# Altium schematic symbol library JLC_25.SchLib: 124 symbols
Pins are listed as number, name and electrical type; pins without a type are passive.

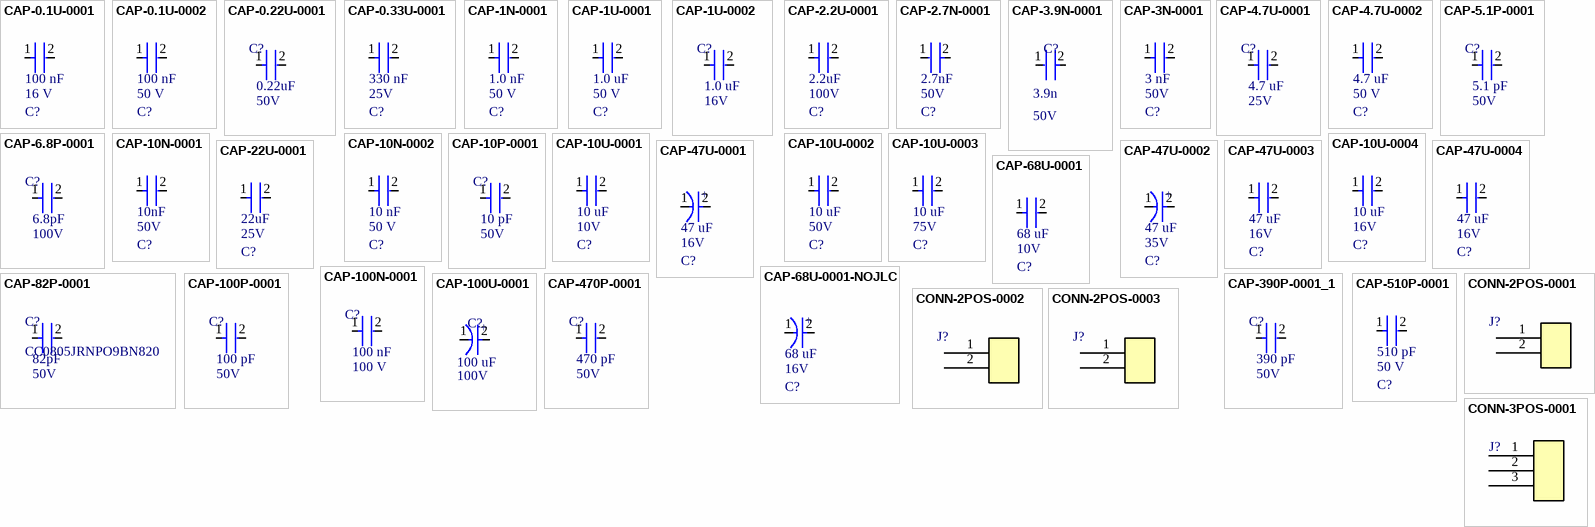
[diagram p0: symbols CAP-0.1U-0001 to CONN-3POS-0001]

## CAP-0.1U-0001
designator C?, comment Voltage Rating: 16 V  Capacitance: 100 nF  (hidden comment: CC0402KRX7R7BB104)
CAP CER 0.1UF 16V X7R 0402; ComponentLink2Description: Datasheet; ComponentLink2URL: https://www.yageo.com/upload/media/product/productsearch/datasheet/mlcc/UPY-GPHC_X7R_6.3V-to-250V_24.pdf; Device Class: Ceramic; Size: 0402
footprint CAP-0402
pins: 1, 2

## CAP-0.1U-0002
designator C?, comment Voltage Rating: 50 V  Capacitance: 100 nF  (hidden comment: CC0805KRX7R9BB104)
CAP CER 0.1UF 50V X7R 0805; ComponentLink2Description: Datasheet; ComponentLink2URL: https://www.yageo.com/upload/media/product/productsearch/datasheet/mlcc/UPY-GPHC_X7R_6.3V-to-250V_24.pdf; Device Class: Ceramic; Size: 0805
footprint CAP-0805
pins: 1, 2

## CAP-0.22U-0001
designator C?, comment Capacitance: 0.22uF  Voltage: 50V  (hidden comment: CC0603JRX7R9BB224)
CAP CER 0.22UF 50V X7R 0603; Device Class: Ceramic; Size: 0603; ComponentLink1Description: Datasheet; ComponentLink1URL: https://www.yageo.com/upload/media/product/productsearch/datasheet/mlcc/UPY-GPHC_X7R_6.3V-to-250V_24.pdf
footprint CAP-0603
pins: 1, 2

## CAP-0.33U-0001
designator C?, comment Voltage: 25V  Capacitance: 330 nF  (hidden comment: CC0603KRX7R8BB334)
CAP CER 0.33UF 25V X7R 0603; ComponentLink2Description: Datasheet; ComponentLink2URL: https://www.yageo.com/upload/media/product/productsearch/datasheet/mlcc/UPY-GPHC_X7R_6.3V-to-250V_24.pdf; Device Class: Ceramic; Size: 0603
footprint CAP-0603
pins: 1, 2

## CAP-1N-0001
designator C?, comment Voltage: 50 V  Capacitance: 1.0 nF  (hidden comment: CC0402KRX7R9BB102)
CAP CER 1000PF 50V X7R 0402; ComponentLink2Description: Datasheet; ComponentLink2URL: http://www.yageo.com/documents/recent/UPY-GP_NP0_16V-to-50V_16.pdf; Device Class: Ceramic; Size: 0402
footprint CAP-0402
pins: 1, 2

## CAP-1U-0001
designator C?, comment Voltage: 50 V  Capacitance: 1.0 uF  (hidden comment: CC0805KKX7R9BB105)
CAP CER 1UF 50V X7R 0805; ComponentLink2URL: https://www.yageo.com/upload/media/product/productsearch/datasheet/mlcc/UPY-GPHC_X7R_6.3V-to-250V_24.pdf; ComponentLink2Description: Datasheet; Device Class: Ceramic; Size: 0805
footprint CAP-0805
pins: 1, 2

## CAP-1U-0002
designator C?, comment Capacitance: 1.0 uF  Voltage: 16V  (hidden comment: CC0603KRX7R7BB105)
CAP CER 1UF 16V X7R 0603; Device Class: Ceramic; Size: 0603
footprint CAP-0603
pins: 1, 2

## CAP-2.2U-0001
designator C?, comment Capacitance: 2.2uF  Voltage: 100V  (hidden comment: CC1206KKX7R0BB225)
CAP CER 2.2UF 100V X7R 1206; Device Class: Ceramic; Size: 1206; ComponentLink1Description: Datasheet; ComponentLink1URL: https://www.yageo.com/upload/media/product/productsearch/datasheet/mlcc/UPY-GPHC_X7R_6.3V-to-250V_24.pdf
footprint CAP-1206
pins: 1, 2

## CAP-2.7N-0001
designator C?, comment Voltage: 50V  Capacitance: 2.7nF  (hidden comment: GRM2165C1H272JA01D)
CAP CER 2700PF 50V C0G/NP0 0805; ComponentLink1Description: Datasheet; ComponentLink1URL: https://search.murata.co.jp/Ceramy/image/img/A01X/G101/ENG/GRM2165C1H272JA01-01.pdf; Device Class: Ceramic; Size: 0805
footprint CAP-0805
pins: 1, 2

## CAP-3.9N-0001
designator C?, comment Voltage: 50V  Capacitance: 3.9n  (hidden comment: CC0402JRX7R9BB392)
3900 pF ±5% 50V Ceramic Capacitor X7R 0402 (1005 Metric)
footprint CAP-0402
pins: 1, 2

## CAP-3N-0001
designator C?, comment Voltage: 50V  Capacitance: 3 nF  (hidden comment: GRM1885C1H302JA01D)
3000 pF ±5% 50V Ceramic Capacitor C0G, NP0 0603 (1608 Metric); Device Class: Ceramic; Size: 1210; ComponentLink1Description: Datasheet; ComponentLink1URL: https://mm.digikey.com/Volume0/opasdata/d220001/medias/docus/41/CL32B106KBJNNNE_Spec.pdf
footprint CAP-0603
pins: 1, 2

## CAP-4.7U-0001
designator C?, comment Capacitance: 4.7 uF  Voltage: 25V  (hidden comment: CC0603KRX5R8BB475)
CAP CER 4.7UF 25V X5R 0603; Device Class: Ceramic; Size: 0603
footprint CAP-0603
pins: 1, 2

## CAP-4.7U-0002
designator C?, comment Voltage: 50 V  Capacitance: 4.7 uF  (hidden comment: CC0805KKX5R9BB475)
CAP CER 4.7UF 50V X5R 0805; ComponentLink2Description: Datasheet; ComponentLink2URL: http://www.yageo.com/documents/recent/UPY-GPHC_Y5V_6.3V-to-50V_8.pdf; Device Class: Ceramic; Size: 0805
footprint CAP-0805
pins: 1, 2

## CAP-5.1P-0001
designator C?, comment Voltage: 50V  Capacitance: 5.1 pF  (hidden comment: CC0402CRNPO9BN5R1)
CAP CER 5.1PF 50V C0G/NPO 0402; Device Class: Ceramic; Size: 0402; ComponentLink1Description: Datasheet; ComponentLink1URL: https://www.yageo.com/upload/media/product/productsearch/datasheet/mlcc/UPY-GPHC_X7R_6.3V-to-250V_24.pdf
footprint CAP-0402
pins: 1, 2

## CAP-6.8P-0001
designator C?, comment Voltage: 100V  Capacitance: 6.8pF  (hidden comment: CC0603CRNPO0BN6R8)
CAP CER 6.8PF 100V C0G/NPO 0603; Device Class: Ceramic; ComponentLink1Description: Datasheet; ComponentLink1URL: https://www.yageo.com/upload/media/product/productsearch/datasheet/mlcc/UPY-GPHC_X7R_6.3V-to-250V_24.pdf; Size: 0603
footprint CAP-0603
pins: 1, 2

## CAP-10N-0001
designator C?, comment Voltage: 50V  Capacitance: 10nF  (hidden comment: GRM2195C1H103JA01D)
CAP CER 10000PF 50V C0G/NP0 0805; Device Class: Ceramic; Size: 0805; ComponentLink1Description: Datasheet; ComponentLink1URL: https://search.murata.co.jp/Ceramy/image/img/A01X/G101/ENG/GRM2195C1H103JA01-01.pdf
footprint CAP-0805
pins: 1, 2

## CAP-10N-0002
designator C?, comment Voltage: 50 V  Capacitance: 10 nF  (hidden comment: CC0603KPX7R9BB103)
CAP CER 10000PF 50V X7R 0603; ComponentLink2Description: Datasheet; ComponentLink2URL: http://www.yageo.com/documents/recent/UPY-GPHC_X7R_6.3V-to-50V_18.pdf; Device Class: Ceramic; Size: 0603
footprint CAP-0603
pins: 1, 2

## CAP-10P-0001
designator C?, comment Capacitance: 10 pF  Voltage: 50V  (hidden comment: CC0402JRNPO9BN100)
CAP CER 10PF 50V C0G/NPO 0402; Device Class: Ceramic; Size: 0402; ComponentLink1Description: Datasheet; ComponentLink1URL: https://www.yageo.com/upload/media/product/productsearch/datasheet/mlcc/UPY-GP_NP0_16V-to-50V_18.pdf
footprint CAP-0402
pins: 1, 2

## CAP-10U-0001
designator C?, comment Voltage: 10V  Capacitance: 10 uF  (hidden comment: CC0603KRX5R6BB106)
CAP CER 10UF 10V X5R 0603; ComponentLink1Description: Datasheet; ComponentLink1URL: https://www.yageo.com/upload/media/product/app/datasheet/mlcc/upy-gphc_x5r_4v-to-50v.pdf; Device Class: Ceramic; Size: 0603
footprint CAP-0603
pins: 1, 2

## CAP-10U-0002
designator C?, comment Voltage: 50V  Capacitance: 10 uF  (hidden comment: CL32B106KBJNNNE)
CAP CER 10UF 50V X7R 1210; Device Class: Ceramic; Size: 1210; ComponentLink1Description: Datasheet; ComponentLink1URL: https://mm.digikey.com/Volume0/opasdata/d220001/medias/docus/41/CL32B106KBJNNNE_Spec.pdf
footprint CAP-1210
pins: 1, 2

## CAP-10U-0003
designator C?, comment Voltage: 75V  Capacitance: 10 uF  (hidden comment: C3225X7R1N106K250AC)
CAP CER 10UF 75V X7R 1210; Device Class: Ceramic; Size: 1210; ComponentLink1Description: Datasheet; ComponentLink1URL: https://mm.digikey.com/Volume0/opasdata/d220001/medias/docus/41/CL32B106KBJNNNE_Spec.pdf
footprint CAP-1210-0001
pins: 1, 2

## CAP-10U-0004
designator C?, comment Voltage: 16V  Capacitance: 10 uF  (hidden comment: 293D106X9016A2TE3)
CAP TANT 10UF 10% 16V 1206; Device Class: Tantalum; Size: 1206; ComponentLink1Description: Datasheet; ComponentLink1URL: https://www.lcsc.com/datasheet/lcsc_datasheet_2304140030_Vishay-Intertech-293D106X9016A2TE3_C110038.pdf
footprint CAP-1206
pins: 1, 2

## CAP-22U-0001
designator C?, comment Voltage: 25V  Capacitance: 22uF  (hidden comment: GRM32ER61E226KE15L)
CAP CER 22UF 25V X5R 1210; ComponentLink2Description: Datasheet; ComponentLink2URL: https://search.murata.co.jp/Ceramy/image/img/A01X/G101/ENG/GRM32ER61E226KE15-01A.pdf; Device Class: Ceramic; Size: 1210
footprint CAP-1210
pins: 1, 2

## CAP-47U-0001
designator C?, comment Voltage: 16V  Capacitance: 47 uF  (hidden comment: 16SVPG47M)
CAP ALUM POLY 47UF 20% 16V SMD; Device Class: Electrolytic; ComponentLink1Description: Datasheet; ComponentLink1URL: https://industrial.panasonic.com/cdbs/www-data/pdf/AAB8000/AAB8000C175.pdf
footprint CAP-47U-0001
pins: 1 C, 2 A
text: +

## CAP-47U-0002
designator C?, comment Voltage: 35V  Capacitance: 47 uF  (hidden comment: EEH-ZC1V470P)
CAP ALUM HYBRID 47UF 20% 35V SMD; Device Class: Electrolytic; ComponentLink1Description: Datasheet; ComponentLink1URL: https://industrial.panasonic.com/cdbs/www-data/pdf/RDD0000/ABA0000C1234.pdf
footprint CAP-Radial-SMD
pins: 1 C, 2 A
text: +

## CAP-47U-0003
designator C?, comment Capacitance: 47 uF  Voltage: 16V  (hidden comment: C3225X7R1N106K250AC)
CAP CER 47UF 16V X5R 1210; Device Class: Ceramic; Size: 1210; ComponentLink1Description: Datasheet; ComponentLink1URL: https://search.murata.co.jp/Ceramy/image/img/A01X/G101/ENG/GRM32ER61C476KE15-01.pdf
footprint CAP-1210
pins: 1, 2

## CAP-47U-0004
designator C?, comment Capacitance: 47 uF  Voltage: 16V  (hidden comment: GRM32ER61C476KE15L)
CAP CER 47UF 16V X5R 1210; Device Class: Ceramic; Size: 1210; ComponentLink1Description: Datasheet; ComponentLink1URL: https://search.murata.co.jp/Ceramy/image/img/A01X/G101/ENG/GRM32ER61C476KE15-01.pdf
footprint CAP-1210
pins: 1, 2

## CAP-68U-0001
designator C?, comment Capacitance: 68 uF  Voltage: 10V  (hidden comment: C5750X5R1A686MT000N)
CAP CER 68UF 10V X5R 2220; Device Class: Ceramic; Size: 2220; ComponentLink1Description: Datasheet; ComponentLink1URL: https://www.lcsc.com/datasheet/lcsc_datasheet_2304140030_TDK-C5750X5R1A686MT000N_C342299.pdf
footprint CAP-1210
pins: 1, 2

## CAP-68U-0001-NOJLC
designator C?, comment Voltage: 16V  Capacitance: 68 uF  (hidden comment: T495C686M016ATE250)
CAP TANT 68UF 20% 16V 2312; Device Class: Electrolytic; ComponentLink1Description: Datasheet; ComponentLink1URL: https://industrial.panasonic.com/cdbs/www-data/pdf/AAB8000/AAB8000C175.pdf
footprint CAP-2312
pins: 1 C, 2 A
text: +

## CAP-82P-0001
designator C?, comment CC0805JRNPO9BN820  Voltage: 50V  Capacitance: 82pF
82 pF ±5% 50V Ceramic Capacitor C0G, NP0 0805 (2012 Metric)
footprint CAP-0805
pins: 1, 2

## CAP-100N-0001
designator C?, comment Capacitance: 100 nF  Voltage: 100 V  (hidden comment: CC0603KRX7R0BB104)
CAP CER 0.1UF 100V X7R 0603; Device Class: Ceramic; Size: 0603; ComponentLink1Description: Datasheet; ComponentLink1URL: https://www.yageo.com/upload/media/product/app/datasheet/mlcc/upy-np0x7r_mv_100-to-630v.pdf
footprint CAP-0603
pins: 1, 2

## CAP-100P-0001
designator C?, comment Capacitance: 100 pF  Voltage: 50V  (hidden comment: CC0402JRNPO9BN101)
CAP CER 100PF 50V C0G/NPO 0402; Device Class: Ceramic; Size: 0402; ComponentLink1Description: Datasheet; ComponentLink1URL: https://www.yageo.com/upload/media/product/productsearch/datasheet/mlcc/UPY-GP_NP0_16V-to-50V_18.pdf
footprint CAP-0402
pins: 1, 2

## CAP-100U-0001
designator C?, comment Voltage: 100V  Capacitance: 100 uF  (hidden comment: EEETK2A101AM)
CAP ALUM 100UF 20% 100V SMD; Device Class: Electrolytic; ComponentLink1Description: Datasheet; ComponentLink1URL: https://industrial.panasonic.com/cdbs/www-data/pdf/RDE0000/ABA0000C1190.pdf
footprint CAP-100U-0001
pins: 1 2, 2 1
text: +

## CAP-390P-0001_1
designator C?, comment Capacitance: 390 pF  Voltage: 50V  (hidden comment: GRM155R71H391KA01D)
CAP CER 390PF 50V X7R 0402; Device Class: Ceramic; Size: 0402; ComponentLink1Description: Datasheet; ComponentLink1URL: https://www.lcsc.com/datasheet/lcsc_datasheet_1912111437_Murata-Electronics-GRM155R71H391KA01D_C185563.pdf
footprint CAP-0402
pins: 1, 2

## CAP-470P-0001
designator C?, comment Voltage: 50V  Capacitance: 470 pF  (hidden comment: CC0805JRNPO9BN471)
CAP CER 470PF 50V C0G/NPO 0805; Device Class: Ceramic; Size: 0805; ComponentLink1Description: Datasheet; ComponentLink1URL: https://www.yageo.com/upload/media/product/productsearch/datasheet/mlcc/UPY-GP_NP0_16V-to-50V_18.pdf
footprint CAP-0805
pins: 1, 2

## CAP-510P-0001
designator C?, comment Voltage: 50 V  Capacitance: 510 pF  (hidden comment: 0402N511J500CT)
CAP CER 510PF 50V C0G/NP0 0402; ComponentLink2Description: Datasheet; ComponentLink2URL: https://www.mouser.com/ProductDetail/Walsin/0402N511J500CT?qs=u16ybLDytRbq33ukPPRl4A%3D%3D&srsltid=AfmBOoq1-HCbTRqPV3GtwyI6lHLBf095DSA3Qg1Qkiix4a-obr82TmJ6; Device Class: Ceramic; Size: 0402
footprint CAP-0402
pins: 1, 2

## CONN-2POS-0001
designator J?, comment 0430450212  (value not drawn)
CONN HEADER VERT 2POS; ComponentLink1Description: Datasheet; ComponentLink1URL: https://tools.molex.com/pdm_docs/ps/PS-43045.pdf
footprint CONN-2POS-0001
pins: 1 7, 2 8

## CONN-2POS-0002
designator J?, comment 0436500215  (value not drawn)
CONN HEADER VERT 2POS 3MM; ComponentLink1Description: Datasheet; ComponentLink1URL: https://www.molex.com/content/dam/molex/molex-dot-com/products/automated/en-us/salesdrawingpdf/436/43650/436500215_sd.pdf?inline
footprint CONN-2POS-0002
pins: 1 7, 2 8

## CONN-2POS-0003
designator J?, comment 1546927-2  (value not drawn)
footprint CONN-1546927-2
pins: 1 7, 2 8

## CONN-3POS-0001
designator J?, comment 61300311121  (value not drawn)
CONN HEADER VERT 3POS 2.54MM; Current Rating: 3A; Voltage Rating: 250V; ComponentLink1Description: Datasheet; ComponentLink1URL: https://www.we-online.com/components/products/datasheet/61300311121.pdf
footprint CONN-3POS-0001 (Pin Header, pitch 2.54 mm, THT, Vertical, single row, 3p)
pins: 1 7, 2 8, 3 9

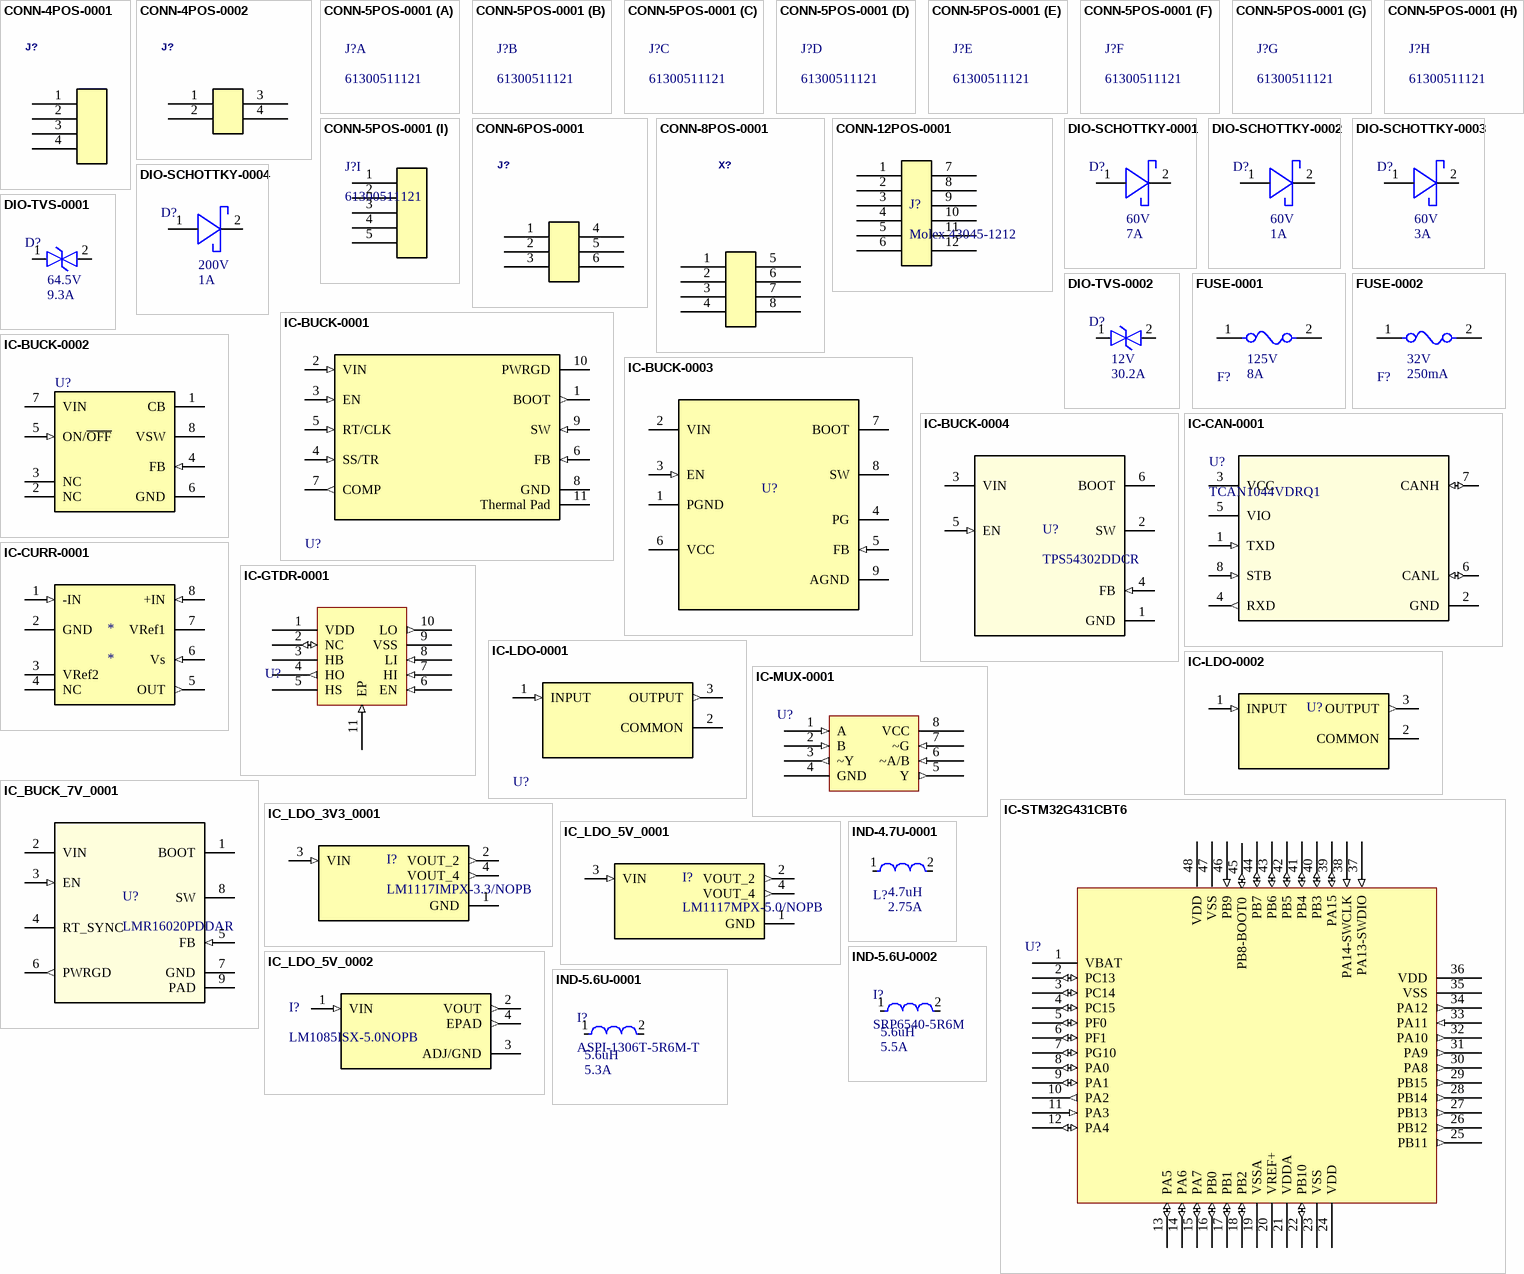
[diagram p1: symbols CONN-4POS-0001 to IND-5.6U-0002]

## CONN-4POS-0001
designator J?, comment Molex 43650-0415  (value not drawn)
CONN HEADER VERT 4POS 3MM; ComponentLink1Description: Datasheet; ComponentLink1URL: https://www.molex.com/content/dam/molex/molex-dot-com/products/automated/en-us/salesdrawingpdf/436/43650/436500415_sd.pdf?inline
footprint CONN-4POS-0001
pins: 1, 2, 3, 4

## CONN-4POS-0002
designator J?, comment Molex 43045-0412  (value not drawn)
CONN HEADER VERT 4POS 3MM; ComponentLink1Description: Datasheet; ComponentLink1URL: https://www.molex.com/content/dam/molex/molex-dot-com/products/automated/en-us/salesdrawingpdf/430/43045/430450412_sd.pdf?inline
footprint CONN-4POS-0002
pins: 1, 2, 3, 4

## CONN-5POS-0001
designator J?, comment 61300511121
CONN HEADER VERT 5POS 2.54MM; ComponentLink1Description: Datasheet; ComponentLink1URL: https://www.we-online.com/components/products/datasheet/61300511121.pdf
footprint CONN-5POS-0001 (Pin Header, pitch 2.54 mm, THT, Vertical, single row, 5p)
part I pins: 1, 2, 3, 4, 5

## CONN-6POS-0001
designator J?, comment Molex 43045-0612  (value not drawn)
CONN HEADER VERT 6POS 3MM; ComponentLink1Description: Datasheet; ComponentLink1URL: https://tools.molex.com/pdm_docs/ps/PS-43045.pdf
footprint CONN-6POS-0001
pins: 1 7, 2, 3, 4, 5, 6

## CONN-8POS-0001
designator X?, comment Molex 43045-0812  (value not drawn)
GateName_1: G$1; SymbolName_1: HEADER_POS8; DeviceSetName: HEADER_POS8_?; DeviceName: 43045-0812; LibraryName: con-molex-micro-fit-3_0_2; Package: 43045-0812
footprint CONN-8POS-0001
pins: 1 7, 2, 3, 4, 5, 6, 7, 8

## CONN-12POS-0001
designator J?, comment Molex 43045-1212
CONN HEADER VERT 12POS 3MM
footprint CONN-12POS-0001
pins: 1 7, 2, 3, 4, 5, 6 4, 7, 8, 9 10, 10, 11, 12

## DIO-SCHOTTKY-0001
designator D?, comment Forward Current: 7A  Reverse Voltage (DC): 60V  (hidden comment: PDS760-13)
DIODE SCHOTTKY 60V 7A POWERDI5; ComponentLink1Description: Datasheet; ComponentLink1URL: https://www.diodes.com/assets/Datasheets/PDS760.pdf
footprint DO-POWERDI5 (SMD, 3-Leads, Body 3.975x5.375mm, Pitch 1.84mm)
pins: 1 CATHODE, 2 ANODE

## DIO-SCHOTTKY-0002
designator D?, comment Forward Current: 1A  Reverse Voltage (DC): 60V  (hidden comment: PMEG6010CEH,115)
DIODE SCHOTTKY 60V 1A SOD123F; ComponentLink1Description: Datasheet; ComponentLink1URL: https://assets.nexperia.com/documents/data-sheet/PMEG6010CEH.pdf
footprint SOD123F
pins: 1 CATHODE, 2 ANODE

## DIO-SCHOTTKY-0003
designator D?, comment Current Rating: 3A  Reverse Voltage: 60V  (hidden comment: PMEG6030EP,115)
DIODE SCHOTTKY 60V 3A SOD128; ComponentLink1Description: Datasheet; ComponentLink1URL: https://assets.nexperia.com/documents/data-sheet/PMEG6030EP.pdf
footprint DIO-SOD128
pins: 1 CATHODE, 2 ANODE

## DIO-SCHOTTKY-0004
designator D?, comment Current Rating: 1A  Reverse Voltage: 200V  (hidden comment: SS1200)
DIODE SCHOTTKY 200V 1A SMA; ComponentLink1Description: Datasheet; ComponentLink1URL: https://www.digikey.com/en/products/detail/mdd/ss1200/15911596
footprint SMA_DIO
pins: 1 CATHODE, 2 ANODE

## DIO-TVS-0001
designator D?, comment Voltage Rating: 64.5V  Current Rating: 9.3A  (hidden comment: SMBJ40CA)
TVS DIODE 40VWM 64.5VC DO214AA; ComponentLink1Description: Datasheet; ComponentLink1URL: https://www.littelfuse.com/media?resourcetype=datasheets&itemid=09a6ae9a-73cb-4ac4-acac-e6dab92ab953&filename=littelfuse_tvs_diode_smbj_datasheet.pdf
footprint DO-214AA (SMBJ)
pins: 1, 2

## DIO-TVS-0002
designator D?, comment Standoff Voltage: 12V  Current Rating: 30.2A  (hidden comment: SMBJ12CA)
TVS DIODE 12VWM 19.9VC DO214AA; ComponentLink1Description: Datasheet; ComponentLink1URL: https://www.littelfuse.com/media?resourcetype=datasheets&itemid=09a6ae9a-73cb-4ac4-acac-e6dab92ab953&filename=littelfuse_tvs_diode_smbj_datasheet.pdf
footprint DO-214AA (SMBJ)
pins: 1, 2

## FUSE-0001
designator F?, comment Fuse Current: 8A  Voltage Rating: 125V  (hidden comment: 01550900M)
FUSE BLOK CARTRIDGE 125V 10A SMD; ComponentLink2Description: Datasheet; ComponentLink2URL: https://www.littelfuse.com/~/media/electronics/datasheets/fuses/littelfuse_fuse_154_154t_154l_154tl_datasheet.pdf.pdf
footprint FUSE-0001
pins: 1, 2

## FUSE-0002
designator F?, comment Fuse Current: 250mA  Voltage Rating: 32V  (hidden comment: 0467.250NRHF)
FUSE BRD MT 250MA 32VAC 32VDC; ComponentLink2Description: Datasheet; ComponentLink2URL: https://www.littelfuse.com/media?resourcetype=datasheets&itemid=4a59f034-1cca-460e-a5ba-e1e66247c76d&filename=littelfuse_fuse_467_datasheet.pdf
footprint RES-0603
pins: 1, 2

## IC-BUCK-0001
designator U?, comment TPS54561DPRR  (value not drawn)
IC REG BUCK ADJ 5A 10WSON; ComponentLink1Description: Datasheet; ComponentLink1URL: https://www.ti.com/general/docs/suppproductinfo.tsp?distId=10&gotoUrl=https%3A%2F%2Fwww.ti.com%2Flit%2Fgpn%2Ftps54561
footprint IC-10WSON
pins: 1 BOOT (out), 2 VIN (in), 3 EN (in), 4 SS/TR (in), 5 RT/CLK (in), 6 FB (in), 7 COMP (out), 8 GND (power), 9 SW (in), 10 PWRGD (oc), 11 Thermal Pad (power)

## IC-BUCK-0002
designator U?, comment LM2674M-ADJ/NOPB  (value not drawn)
IC REG BUCK ADJ 500MA 8SOIC; ComponentLink1Description: Datasheet; ComponentLink1URL: http://www.ti.com/general/docs/lit/getliterature.tsp?genericPartNumber=LM2674&fileType=pdf
footprint IC-8SOIC
pins: 1 CB, 2 NC, 3 NC, 4 FB (in), 5 ON/~{OFF} (in), 6 GND (power), 7 VIN (power), 8 VSW (power)

## IC-BUCK-0003
designator U?, comment LMR36510FADDAR  (value not drawn)
IC REG BUCK ADJ 1A 8SOPWR; ComponentLink1Description: Datasheet; ComponentLink1URL: https://www.ti.com/lit/ds/symlink/lmr36510.pdf?HQS=dis-dk-null-digikeymode-dsf-pf-null-wwe&ts=1728572125021&ref_url=https%253A%252F%252Fwww.ti.com%252Fgeneral%252Fdocs%252Fsuppproductinfo.tsp%253FdistId%253D10%2526gotoUrl%253Dhttps%253A%252F%252Fwww.ti.com%252Flit%252Fgpn%252Flmr36510
footprint IC-8SOPWR
pins: 1 PGND (power), 2 VIN (power), 3 EN (in), 4 PG (oc), 5 FB (in), 6 VCC (power), 7 BOOT (power), 8 SW (power), 9 AGND

## IC-BUCK-0004
designator U?, comment TPS54302DDCR
IC REG BUCK ADJ 3A SOT23
footprint IC-SOT-23-6
pins: 1 GND (power), 2 SW (power), 3 VIN (power), 4 FB (in), 5 EN (in), 6 BOOT (power)

## IC-CAN-0001
designator U?, comment TCAN1044VDRQ1
IC TRANSCEIVER 1/1 8SOIC; ComponentLink1Description: Datasheet; ComponentLink1URL: https://www.ti.com/lit/ds/symlink/tcan1044-q1.pdf?HQS=dis-dk-null-digikeymode-dsf-pf-null-wwe&ts=1728758303289&ref_url=https%253A%252F%252Fwww.ti.com%252Fgeneral%252Fdocs%252Fsuppproductinfo.tsp%253FdistId%253D10%2526gotoUrl%253Dhttps%253A%252F%252Fwww.ti.com%252Flit%252Fgpn%252Ftcan1044-q1
footprint IC-8SOIC
pins: 1 TXD (in), 2 GND (power), 3 VCC (power), 4 RXD (out), 5 VIO (power), 6 CANL (io), 7 CANH (io), 8 STB (in)

## IC-CURR-0001
designator *
Current Sense Amplifier 1 Circuit 8-MSOP
footprint IC-CURR
pins: 1 -IN (in), 2 GND (power), 3 VRef2, 4 NC, 5 OUT (out), 6 Vs (in), 7 VRef1 (power), 8 +IN (in)

## IC-GTDR-0001
designator U?, comment UCC27282DRCR  (value not drawn)
IC GATE DRVR HALF-BRIDGE 10VSON; VCC Max: 16; Package: 10-VSON; ComponentLink1Description: Datasheet; ComponentLink1URL: https://www.ti.com/lit/ds/symlink/ucc27282.pdf?HQS=dis-dk-null-digikeymode-dsf-pf-null-wwe&ts=1728563165008&ref_url=https%253A%252F%252Fwww.ti.com
footprint IC-10VSON
pins: 1 VDD (power), 2 NC (io), 3 HB (power), 4 HO (out), 5 HS (power), 6 EN (in), 7 HI (in), 8 LI (in), 9 VSS (power), 10 LO (out), 11 EP (in)

## IC-LDO-0001
designator U?, comment UA78M05IDCYR  (value not drawn)
IC REG LINEAR 5V 500MA SOT223-4; ComponentLink2URL: http://www.ti.com/lit/ds/symlink/ua78m.pdf; ComponentLink2Description: Datasheet
footprint IC-SOT-223-4
pins: 1 INPUT (in), 2 COMMON, 3 OUTPUT (out)

## IC-LDO-0002
designator U?, comment UA78M33CDCYR  (value not drawn)
IC REG LIN 3.3V 500MA SOT223-4; ComponentLink1Description: Datasheet; ComponentLink1URL: https://www.ti.com/lit/ds/slvs059u/slvs059u.pdf?ts=1728540043529
footprint IC-SOT-223-4
pins: 1 INPUT (in), 2 COMMON (power), 3 OUTPUT (out)

## IC-MUX-0001
designator U?, comment SN74LVC2G157DCUR  (value not drawn)
Multiplexer 1 x 2:1 8-VSSOP; ComponentLink1Description: Datasheet; ComponentLink1URL: https://www.ti.com/general/docs/suppproductinfo.tsp?distId=10&gotoUrl=https%3A%2F%2Fwww.ti.com%2Flit%2Fgpn%2Fsn74lvc2g157
footprint IC-8VSSOP
pins: 1 A (in), 2 B (in), 3 ~Y (out), 4 GND (power), 5 Y (out), 6 ~A/B (in), 7 ~G (in), 8 VCC (power)

## IC-STM32G431CBT6
designator U?, comment STM32G431CBT6  (value not drawn)
IC MCU 32BIT 128KB FLASH 48LQFP; Package: 48LQFP; ComponentLink1Description: Datasheet; ComponentLink1URL: https://www.st.com/resource/en/datasheet/stm32g431cb.pdf
footprint IC-LQFP48
pins: 1 VBAT (power), 2 PC13 (io), 3 PC14 (io), 4 PC15 (io), 5 PF0 (io), 6 PF1 (io), 7 PG10 (io), 8 PA0 (io), 9 PA1 (io), 10 PA2 (out), 11 PA3 (in), 12 PA4 (io), 13 PA5 (io), 14 PA6 (io), 15 PA7 (io), 16 PB0 (io), 17 PB1 (io), 18 PB2 (io), 19 VSSA (power), 20 VREF+ (power), 21 VDDA (power), 22 PB10 (io), 23 VSS (power), 24 VDD (power), 25 PB11 (out), 26 PB12 (out), 27 PB13 (out), 28 PB14 (out), 29 PB15 (out), 30 PA8 (out), 31 PA9 (out), 32 PA10 (out), 33 PA11 (in), 34 PA12 (out), 35 VSS (power), 36 VDD (power), 37 PA13-SWDIO (in), 38 PA14-SWCLK (in), 39 PA15 (io), 40 PB3 (io), 41 PB4 (io), 42 PB5 (io), 43 PB6 (io), 44 PB7 (io), 45 PB8-BOOT0 (io), 46 PB9 (in), 47 VSS (power), 48 VDD (power)

## IC_BUCK_7V_0001
designator U?, comment LMR16020PDDAR
IC REG BUCK ADJ 2A 8SOPWR; ComponentLink1Description: Datasheet; ComponentLink1URL: https://www.ti.com/general/docs/suppproductinfo.tsp?distId=10&gotoUrl=https%3A%2F%2Fwww.ti.com%2Flit%2Fgpn%2Flmr16020
footprint IC-8SOPWR
pins: 1 BOOT, 2 VIN (power), 3 EN (in), 4 RT_SYNC, 5 FB (in), 6 PWRGD (out), 7 GND (power), 8 SW (power), 9 PAD (power)

## IC_LDO_3V3_0001
designator I?, comment LM1117IMPX-3.3/NOPB
IC REG LIN 3.3V 800MA SOT223-4; ComponentLink1Description: New link; ComponentLink1URL: https://www.ti.com/lit/ds/symlink/lm1117.pdf?HQS=dis-dk-null-digikeymode-dsf-pf-null-wwe&ts=1721700739746
footprint IC-SOT-223-4
pins: 1 GND (power), 2 VOUT_2 (out), 3 VIN (in), 4 VOUT_4 (out)

## IC_LDO_5V_0001
designator I?, comment LM1117MPX-5.0/NOPB
IC REG LINEAR 5V 800MA SOT223-4; ComponentLink1Description: Datasheet; ComponentLink1URL: https://www.ti.com/lit/ds/symlink/lm1117.pdf?HQS=dis-dk-null-digikeymode-dsf-pf-null-wwe&ts=1721700739746
footprint IC-SOT-223-4
pins: 1 GND (power), 2 VOUT_2 (out), 3 VIN (in), 4 VOUT_4 (out)

## IC_LDO_5V_0002
designator I?, comment LM1085ISX-5.0NOPB
IC REG LIN 5V 3A DDPAK/TO263-3; Mfr_Name: Texas Instruments; RefDes: RefDes; Type: Type; ComponentLink1Description: Datasheet; ComponentLink1URL: https://www.ti.com/lit/ds/symlink/lm1085.pdf?HQS=dis-dk-null-digikeymode-dsf-pf-null-wwe&ts=1729859809163&ref_url=https%253A%252F%252Fwww.ti.com%252Fgeneral%252Fdocs%252Fsuppproductinfo.tsp%253FdistId%253D10%2526gotoUrl%253Dhttps%253A%252F%252Fwww.ti.com%252Flit%252Fgpn%252Flm1085
footprint IC-TO-263-4
pins: 1 VIN (in), 2 VOUT (out), 3 ADJ/GND (power), 4 EPAD (out)

## IND-4.7U-0001
designator L?, comment Inductance: 4.7uH  Current Rating: 2.75A  (hidden comment: CDRH104NP-221MC)
FIXED IND 220UH 520MA 960MOHM SM; ComponentLink1Description: Datasheet; ComponentLink1URL: https://products.sumida.com/products/pdf/CDRH104.pdf
footprint IND-4.7UH-0001
pins: 1, 2

## IND-5.6U-0001
designator I?, comment ASPI-1306T-5R6M-T  Saturation Current: 5.3A  Inductance: 5.6uH
5.6 µH Unshielded Drum Core, Wirewound Inductor 5.3 A 20mOhm Max Nonstandard
footprint IND-5.6UH-0001
pins: 1, 2

## IND-5.6U-0002
designator I?, comment SRP6540-5R6M  Saturation Current: 5.5A  Inductance: 5.6uH
FIXED IND 5.6UH 5.5A 38 MOHM SMD
footprint IND_SRP6540-5R6M
pins: 1, 2

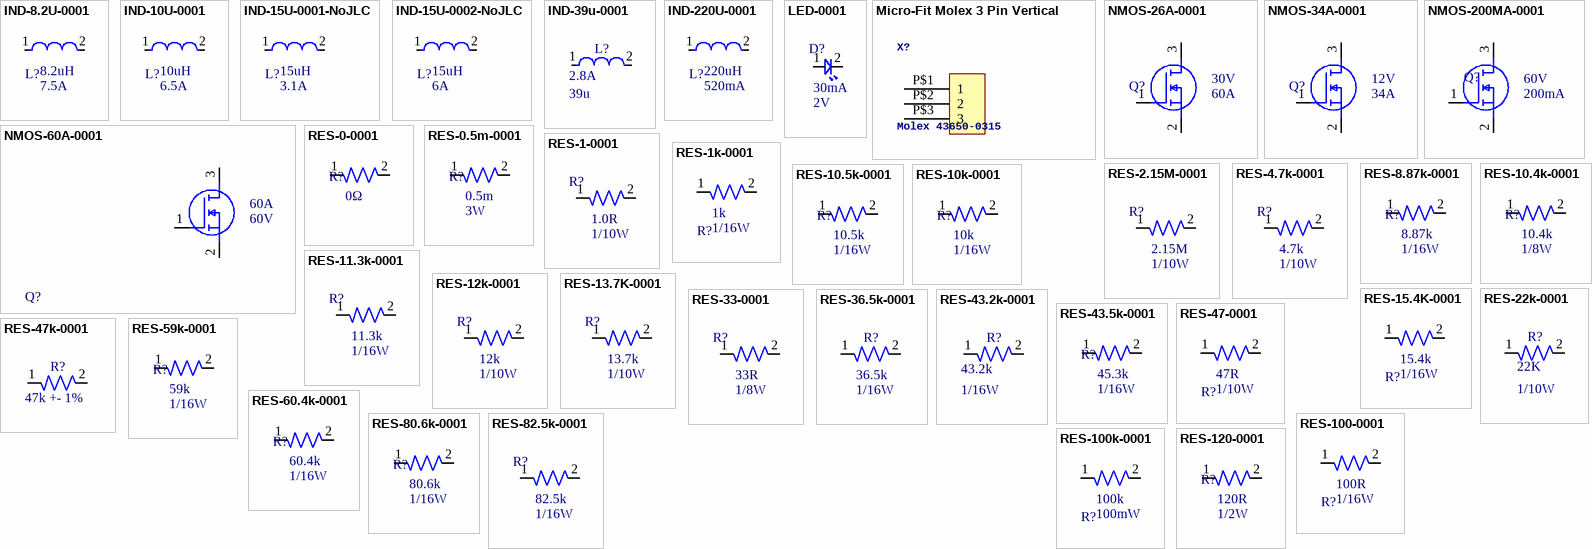
[diagram p2: symbols IND-8.2U-0001 to RES-120-0001]

## IND-8.2U-0001
designator L?, comment Inductance: 8.2uH  Current Rating: 7.5A  (hidden comment: IHLP2525CZER8R2M01)
8.2 µH Shielded Molded Inductor 4 A 68mOhm Max Nonstandard; ComponentLink1Description: Datasheet; ComponentLink1URL: https://products.sumida.com/products/pdf/CDRH104.pdf
footprint IND25X25CZ
pins: 1, 2

## IND-10U-0001
designator L?, comment Inductance: 10uH  Current Rating: 6.5A  (hidden comment: BMRF001010401R0MD1)
FIXED IND 10UH 6.5A 30 MOHM SMD; ComponentLink1Description: Datasheet; ComponentLink1URL: https://productfinder.pulseelectronics.com/api/open/part-attachments/datasheet/BMRF001010401R0MD1
footprint IND-10UH-0001
pins: 1, 2

## IND-15U-0001-NoJLC
designator L?, comment Inductance: 15uH  Current Rating: 3.1A  (hidden comment: CSAD1010-150M)
FIXED IND 15UH 3.1A 50 MOHM SMD; ComponentLink1Description: Datasheet; ComponentLink1URL: https://www.eaton.com/content/dam/eaton/products/electronic-components/resources/data-sheet/eaton-dr1040-shielded-power-inductors-data-sheet.pdf
footprint IND-15UH-0001 (7v Buck)
pins: 1, 2

## IND-15U-0002-NoJLC
designator L?, comment Inductance: 15uH  Current Rating: 6A  (hidden comment: CSAD1010-150M)
SMD MOLDING POWER CHOKE; ComponentLink1Description: Datasheet; ComponentLink1URL: https://www.digikey.com/en/products/detail/codaca/CSAD1010-150M/16633512?s=N4IgjCBcoBwAxVAYygMwIYBsDOBTANCAPZQDaIALHAExwDMEAuoQA4AuUIAymwE4CWAOwDmIAL6Ew1MAE5EIFJAw4CxMiGoy6AdmoUQhajGqa6BjTDp6zhywFY4c23UtOLFbVXPVtYK3e9dODsbdwA2OxgQZhB2Th4BEXFJTQhoBTQsPEISSHITS0do1g5Ibj4hUQkNOBhteTiygFVBfjYAeVQAWVx0bABXXlxzfs4AVoAJcwBbIU4wAMJp9AAPeYDq2hgo9MaQFrbOnr7B4cJRsoBBGbmyuwA6DcIAWmp5RT5%2B1VzyAMYxAFAA
footprint IND-15U-0002 (12V Buck)
pins: 1, 2

## IND-39u-0001
designator L?, comment Current: 2.8A  Inductance: 39u  (hidden comment: SRR1260-390M)
39 µH Shielded Drum Core, Wirewound Inductor 2.8 A 70mOhm Max Nonstandard
footprint IND_BOURNS_SRR1260
pins: 1, 2

## IND-220U-0001
designator L?, comment Inductance: 220uH  Current Rating: 520mA  (hidden comment: CDRH104NP-221MC)
FIXED IND 220UH 520MA 960MOHM SM; ComponentLink1Description: New link; ComponentLink1URL: https://products.sumida.com/products/pdf/CDRH104.pdf
footprint IND-220UH-0001
pins: 1, 2

## LED-0001
designator D?, comment Forward Current: 30mA  Forward Voltage: 2V  (hidden comment: BL-HKC36G-AV-TRB)
LED YELLOW CLEAR 0603 SMD; ComponentLink1Description: Datasheet; ComponentLink1URL: https://www.americanbrightled.com/pdffiles/led-components/smt/BL-HKC36G-AV-TRB.pdf
footprint LED-0603
pins: 1, 2

## Micro-Fit Molex 3 Pin Vertical
designator X?, comment Molex 43650-0315
GateName_1: G$1; SymbolName_1: HEADER_POS3; DeviceSetName: HEADER_POS3_?; DeviceName: 43650-0315; LibraryName: con-molex-micro-fit-3_0_2; Package: 43650-0315
footprint 43650-0315
pins: P$1 1, P$2 2, P$3 3

## NMOS-26A-0001
designator Q?, comment Voltage: 30V  Continuous Current: 60A  (hidden comment: CSD17575Q3)
MOSFET N-CH 30V 60A 8VSON; ComponentLink1Description: Datasheet; ComponentLink1URL: https://www.ti.com/lit/ds/symlink/csd17575q3.pdf?ts=1728565072242&ref_url=https%253A%252F%252Fwww.mouser.co.uk%252F
footprint IC-8VSONCLIP
pins: 1 G, 2 S, 3 D

## NMOS-34A-0001
designator Q?, comment SI4838BDY-T1-GE3  (value not drawn)
MOSFET N-CH 12 V 34A (Tc) 2.5W (Ta), 5.7W (Tc) Surface Mount 8-SOIC; Mfr_Name: Vishay; RefDes: RefDes; Type: Type
footprint SOIC8_NARROW_VIS
pins: 1 G, 2 S, 3 D
text: 12V; 34A

## NMOS-60A-0001
designator Q?, comment Voltage: 60V  Continuous Current: 60A  (hidden comment: CSD18543Q3AT)
MOSFET N-CH 60V 12A/60A 8VSON; ComponentLink2Description: Datasheet; ComponentLink2URL: http://www.ti.com/lit/ds/symlink/csd18543q3a.pdf
footprint IC-8VSONCLIP
pins: 1 G, 2 S, 3 D

## NMOS-200MA-0001
designator Q?, comment Continuous Current: 200mA  Voltage: 60V  (hidden comment: T2N7002AK,LM)
MOSFET N-CH 60V 200MA SOT23; ComponentLink1Description: Datasheet; ComponentLink1URL: https://toshiba.semicon-storage.com/info/T2N7002AK_datasheet_en_20150401.pdf?did=29712&prodName=T2N7002AK
footprint IC-SOT23-3
pins: 1 G, 2 S, 3 D

## RES-0-0001
designator R?, comment Resistance: 0Ω  (hidden comment: CRF2010-J/-000ELF)
0 Ohms Jumper Chip Resistor 2010 (5025 Metric) Automotive AEC-Q200 Metal Element; Tolerance: 1%; Size: 0402; ComponentLink1Description: Datasheet; ComponentLink1URL: https://www.yageo.com/upload/media/product/products/datasheet/rchip/PYu-RC_Group_51_RoHS_L_12.pdf
footprint RES-2010
pins: 1, 2
1 alternate drawing of the same symbol

## RES-0.5m-0001
designator R?, comment Power: 3W  Resistance: 0.5m  (hidden comment: C337220)
2512 Chip Resistor - Surface Mount ROHS; Tolerance: 1%; Size: 0402; ComponentLink1Description: Datasheet; ComponentLink1URL: https://www.yageo.com/upload/media/product/products/datasheet/rchip/PYu-RC_Group_51_RoHS_L_12.pdf
footprint RES-2512
pins: 1, 2
1 alternate drawing of the same symbol

## RES-1-0001
designator R?, comment Resistance: 1.0R  Power: 1/10W  (hidden comment: ERJ2GEJ1R0X)
RES SMD 1 OHM 5% 1/10W 0402; Tolerance: 5%; ComponentLink1Description: Datasheet; ComponentLink1URL: https://api.pim.na.industrial.panasonic.com/file_stream/main/fileversion/1242; Size: 0402
footprint RES-0402
pins: 1, 2

## RES-1k-0001
designator R?, comment Power: 1/16W  Resistance: 1k  (hidden comment: RC0402FR-071KL)
RES 1K OHM 1% 1/16W 0402; Tolerance: 1%; Size: 0402; ComponentLink1Description: Datasheet; ComponentLink1URL: https://www.yageo.com/upload/media/product/products/datasheet/rchip/PYu-RC_Group_51_RoHS_L_12.pdf
footprint RES-0402
pins: 1, 2

## RES-2.15M-0001
designator R?, comment Power: 1/10W  Resistance: 2.15M  (hidden comment: RC0603FR-072M15L)
RES SMD 2.15M OHM 1% 1/10W 0603; Tolerance: 1%; Size: 0603; ComponentLink1Description: Datasheet; ComponentLink1URL: https://www.yageo.com/upload/media/product/products/datasheet/rchip/PYu-RC_Group_51_RoHS_L_12.pdf
footprint RES-0603
pins: 1, 2

## RES-4.7k-0001
designator R?, comment Power: 1/10W  Resistance: 4.7k  (hidden comment: RC0603FR-074K7L)
RES 4.7K OHM 1% 1/10W 0603; Tolerance: 1%; Size: 0603; ComponentLink1Description: Datasheet; ComponentLink1URL: https://www.yageo.com/upload/media/product/products/datasheet/rchip/PYu-RC_Group_51_RoHS_L_12.pdf
footprint RES-0603
pins: 1, 2

## RES-8.87k-0001
designator R?, comment Resistance: 8.87k  Power: 1/16W  (hidden comment: RC0402FR-078K87L)
RES 8.87K OHM 1% 1/16W 0402; Tolerance: 1%; Size: 0402; ComponentLink1Description: Datasheet; ComponentLink1URL: https://www.yageo.com/upload/media/product/products/datasheet/rchip/PYu-RC_Group_51_RoHS_L_12.pdf
footprint RES-0402
pins: 1, 2
1 alternate drawing of the same symbol

## RES-10.4k-0001
designator R?, comment Power: 1/8W  Resistance: 10.4k  (hidden comment: RT0805BRD0710K4L)
10.4 kOhms ±0.1% 0.125W, 1/8W Chip Resistor 0805 (2012 Metric) Thin Film; Tolerance: 1%; Size: 0402; ComponentLink1Description: Datasheet; ComponentLink1URL: https://www.yageo.com/upload/media/product/products/datasheet/rchip/PYu-RC_Group_51_RoHS_L_12.pdf
footprint RES-0805
pins: 1, 2
1 alternate drawing of the same symbol

## RES-10.5k-0001
designator R?, comment Power: 1/16W  Resistance: 10.5k  (hidden comment: RC0402FR-0710K5L)
RES 10.5K OHM 1% 1/16W 0402; Tolerance: 1%; Size: 0402; ComponentLink1Description: Datasheet; ComponentLink1URL: https://www.yageo.com/upload/media/product/products/datasheet/rchip/PYu-RC_Group_51_RoHS_L_12.pdf
footprint RES-0402
pins: 1, 2
1 alternate drawing of the same symbol

## RES-10k-0001
designator R?, comment Resistance: 10k  Power: 1/16W  (hidden comment: RC0402FR-0710KL)
RES 10K OHM 1% 1/16W 0402; Tolerance: 1%; Size: 0402; ComponentLink1Description: Datasheet; ComponentLink1URL: https://www.yageo.com/upload/media/product/products/datasheet/rchip/PYu-RC_Group_51_RoHS_L_12.pdf
footprint RES-0402
pins: 1, 2
1 alternate drawing of the same symbol

## RES-11.3k-0001
designator R?, comment Power: 1/16W  Resistance: 11.3k  (hidden comment: RC0402FR-0711K3L)
11.3 kOhms ±1% 0.063W, 1/16W Chip Resistor 0402 (1005 Metric) Moisture Resistant Thick Film; Tolerance: 1%; Size: 0603; ComponentLink1Description: Datasheet; ComponentLink1URL: https://www.yageo.com/upload/media/product/products/datasheet/rchip/PYu-RC_Group_51_RoHS_L_12.pdf
footprint RES-0402
pins: 1, 2

## RES-12k-0001
designator R?, comment Power: 1/10W  Resistance: 12k  (hidden comment: RC0603FR-0712KL)
RES 12K OHM 1% 1/10W 0603; Tolerance: 1%; Size: 0603; ComponentLink1Description: Datasheet; ComponentLink1URL: https://www.lcsc.com/datasheet/lcsc_datasheet_2304140030_YAGEO-RC0603FR-0712KL_C114659.pdf
footprint RES-0603
pins: 1, 2

## RES-13.7K-0001
designator R?, comment Power: 1/10W  Resistance: 13.7k  (hidden comment: RC0603FR-0713K7L)
RES 13.7K OHM 1% 1/10W 0603
footprint RES-0603
pins: 1, 2

## RES-15.4K-0001
designator R?, comment Power: 1/16W  Resistance: 15.4k  (hidden comment: AC0402FR-0715K4L)
RES 15.4kΩ ±1% 0.063W 0402; Tolerance: 1%; Size: 0402; ComponentLink1Description: Datasheet; ComponentLink1URL: https://www.yageo.com/upload/media/product/productsearch/datasheet/rchip/PYu-AC_51_RoHS_L_10.pdf
footprint RES-0402
pins: 1, 2

## RES-22k-0001
designator R?, comment Power: 1/10W  Resistance: 22K  (hidden comment: RC0603FR-0722KL)
22 kOhms ±1% 0.1W, 1/10W Chip Resistor 0603 (1608 Metric) Moisture Resistant Thick Film; Parameter 1: *
footprint RES-0603
pins: 1, 2

## RES-33-0001
designator R?, comment Resistance: 33R  Power: 1/8W  (hidden comment: RC0402FR-7W33RL)
RES 33 OHM 1% 1/8W 0402; Tolerance: 1%; Size: 0402; ComponentLink1Description: Datasheet; ComponentLink1URL: https://www.yageo.com/upload/media/product/products/datasheet/rchip/PYu-RC_Group_51_RoHS_L_12.pdf
footprint RES-0402
pins: 1, 2

## RES-36.5k-0001
designator R?, comment Power: 1/16W  Resistance: 36.5k  (hidden comment: RC0402FR-0736K5L)
36.5 kOhms ±1% 0.063W, 1/16W Chip Resistor 0402 (1005 Metric) Moisture Resistant Thick Film; Parameter 1: *
footprint RES-0402
pins: 1, 2

## RES-43.2k-0001
designator R?, comment Parameter 1: 1/16W  Resistance: 43.2k  (hidden comment: RC0402FR-0743K2L)
43.2 kOhms ±1% 0.063W, 1/16W Chip Resistor 0402 (1005 Metric) Moisture Resistant Thick Film
footprint RES-0402
pins: 1, 2

## RES-43.5k-0001
designator R?, comment Power: 1/16W  Resistance: 45.3k  (hidden comment: RC0402FR-0745K3L)
RES 45.3K OHM 1% 1/16W 0402; Tolerance: 1%; Size: 0402; ComponentLink1Description: Datasheet; ComponentLink1URL: https://www.lcsc.com/datasheet/lcsc_datasheet_2304140030_YAGEO-RC0402FR-0745K3L_C137977.pdf
footprint RES-0402
pins: 1, 2
1 alternate drawing of the same symbol

## RES-47-0001
designator R?, comment Power: 1/10W  Resistance: 47R  (hidden comment: RC0603FR-0747RL)
RES 47 OHM 1% 1/10W 0603; Tolerance: 1%; Size: 0603; ComponentLink1Description: Datasheet; ComponentLink1URL: https://www.yageo.com/upload/media/product/products/datasheet/rchip/PYu-RC_Group_51_RoHS_L_12.pdf
footprint RES-0603
pins: 1, 2

## RES-47k-0001
designator R?, comment Resistance: 47k +- 1%  (hidden comment: TMP6431DECR)
PTC Thermistor 47 kOhms 0402 (1006 Metric)
footprint RES-0402
pins: 1, 2

## RES-59k-0001
designator R?, comment Power: 1/16W  Resistance: 59k  (hidden comment: RC0402FR-0759KL)
RES 59K OHM 1% 1/16W 0402; Tolerance: 1%; Size: 0402; ComponentLink1Description: Datasheet; ComponentLink1URL: https://www.digikey.com/en/products/detail/yageo/RC0402FR-0759KL/2827634?s=N4IgTCBcDaIEoGEAMAWJYBicC0SDsArAJwDSAMiALoC%2BQA
footprint RES-0402
pins: 1, 2
1 alternate drawing of the same symbol

## RES-60.4k-0001
designator R?, comment Power: 1/16W  Resistance: 60.4k  (hidden comment: RC0402FR-0760K4L)
RES 60.4K OHM 1% 1/16W 0402; Tolerance: 1%; Size: 0402; ComponentLink1Description: Datasheet; ComponentLink1URL: https://www.yageo.com/upload/media/product/products/datasheet/rchip/PYu-RC_Group_51_RoHS_L_12.pdf
footprint RES-0402
pins: 1, 2
1 alternate drawing of the same symbol

## RES-80.6k-0001
designator R?, comment Resistance: 80.6k  Power: 1/16W  (hidden comment: RC0402FR-0780K6L)
80.6 kOhms ±1% 0.063W, 1/16W Chip Resistor 0402 (1005 Metric) Moisture Resistant Thick Film; Tolerance: 1%; Size: 0402; ComponentLink1Description: Datasheet; ComponentLink1URL: https://www.yageo.com/upload/media/product/products/datasheet/rchip/PYu-RC_Group_51_RoHS_L_12.pdf
footprint RES-0402
pins: 1, 2
1 alternate drawing of the same symbol

## RES-82.5k-0001
designator R?, comment Power: 1/16W  Resistance: 82.5k  (hidden comment: RC0402FR-0782K5L)
82.5 kOhms ±1% 0.063W, 1/16W Chip Resistor 0402 (1005 Metric) Moisture Resistant Thick Film; Tolerance: 1%; Size: 0603; ComponentLink1Description: Datasheet; ComponentLink1URL: https://www.lcsc.com/datasheet/lcsc_datasheet_2304140030_YAGEO-RC0603FR-0712KL_C114659.pdf
footprint RES-0402
pins: 1, 2

## RES-100-0001
designator R?, comment Power: 1/16W  Resistance: 100R  (hidden comment: RC0402FR-07100RL)
RES 100 OHM 1% 1/16W 0402; Tolerance: 1%; Size: 0402; ComponentLink1Description: Datasheet; ComponentLink1URL: https://www.yageo.com/upload/media/product/products/datasheet/rchip/PYu-RC_Group_51_RoHS_L_12.pdf
footprint RES-0402
pins: 1, 2

## RES-100k-0001
designator R?, comment Power: 100mW  Resistance: 100k  (hidden comment: RC0603FR-07100KL)
RES SMD 100K OHM 1% 1/10W 0603; Tolerance: 1%; Size: 0603; ComponentLink1Description: Datasheet; ComponentLink1URL: https://www.yageo.com/upload/media/product/products/datasheet/rchip/PYu-RC_Group_51_RoHS_L_12.pdf
footprint RES-0603
pins: 1, 2

## RES-120-0001
designator R?, comment Power: 1/2W  Resistance: 120R  (hidden comment: RC1210FR-07120RL)
RES 120 OHM 1% 1/2W 1210; Tolerance: 1%; Size: 1210; ComponentLink1Description: Datasheet; ComponentLink1URL: https://www.yageo.com/upload/media/product/products/datasheet/rchip/PYu-RC_Group_51_RoHS_L_12.pdf
footprint RES-1210 (Chip Resistor, 2-Leads, Body 3.10x2.60mm, IPC High Density)
pins: 1, 2
1 alternate drawing of the same symbol

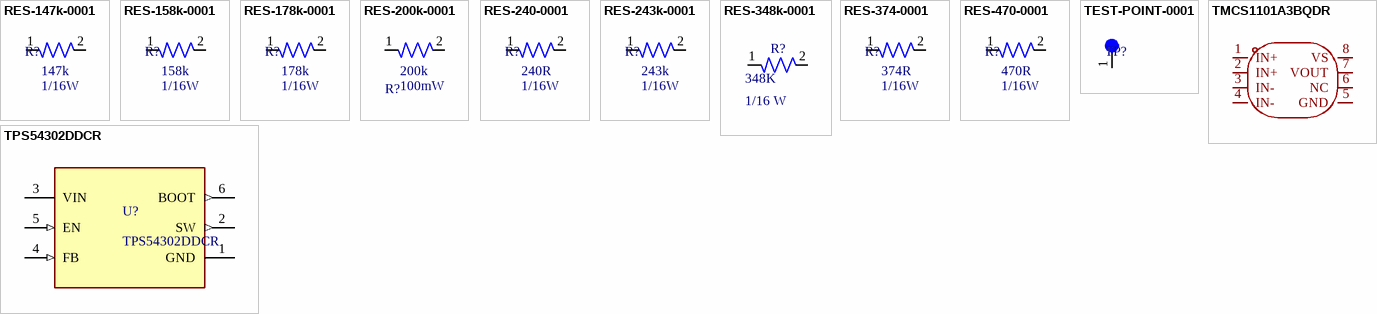
[diagram p3: symbols RES-147k-0001 to TPS54302DDCR]

## RES-147k-0001
designator R?, comment Power: 1/16W  Resistance: 147k  (hidden comment: RC0402FR-07147KL)
RES 147K OHM 1% 1/16W 0402; Tolerance: 1%; Size: 0402; ComponentLink1Description: Datasheet; ComponentLink1URL: https://www.yageo.com/upload/media/product/products/datasheet/rchip/PYu-RC_Group_51_RoHS_L_12.pdf
footprint RES-0402
pins: 1, 2
1 alternate drawing of the same symbol

## RES-158k-0001
designator R?, comment Power: 1/16W  Resistance: 158k  (hidden comment: RC0402FR-07158KL)
RES 158K OHM 1% 1/16W 0402; Tolerance: 1%; Size: 0402; ComponentLink1Description: Datasheet; ComponentLink1URL: https://www.yageo.com/upload/media/product/products/datasheet/rchip/PYu-RC_Group_51_RoHS_L_12.pdf
footprint RES-0402
pins: 1, 2
1 alternate drawing of the same symbol

## RES-178k-0001
designator R?, comment Power: 1/16W  Resistance: 178k  (hidden comment: RTT021783FTH)
62.5mW Thick Film Resistors 50V ±100ppm/℃ ±1% 178kΩ 0402 Chip Resistor - Surface Mount ROHS; Tolerance: 1%; Size: 0402; ComponentLink1Description: Datasheet; ComponentLink1URL: https://www.lcsc.com/datasheet/lcsc_datasheet_2304140030_RALEC-RTT021783FTH_C102842.pdf
footprint RES-0402
pins: 1, 2
1 alternate drawing of the same symbol

## RES-200k-0001
designator R?, comment Power: 100mW  Resistance: 200k  (hidden comment: RC0603FR-07200KL)
RES SMD 200K OHM 1% 1/10W 0603; Tolerance: 1%; Size: 0603; ComponentLink1Description: Datasheet; ComponentLink1URL: https://www.yageo.com/upload/media/product/products/datasheet/rchip/PYu-RC_Group_51_RoHS_L_12.pdf
footprint RES-0603
pins: 1, 2

## RES-240-0001
designator R?, comment Resistance: 240R  Power: 1/16W  (hidden comment: RC0402FR-07240RL)
240R 0.063W 1% 0402 (1005 Metric)  SMD; Tolerance: 1%; Size: 0402; ComponentLink1Description: Datasheet; ComponentLink1URL: https://www.yageo.com/upload/media/product/products/datasheet/rchip/PYu-RC_Group_51_RoHS_L_12.pdf
footprint RES-0402
pins: 1, 2
1 alternate drawing of the same symbol

## RES-243k-0001
designator R?, comment Resistance: 243k  Power: 1/16W  (hidden comment: RC0402FR-07243KL)
243 kOhms ±1% 0.063W, 1/16W Chip Resistor 0402 (1005 Metric) Moisture Resistant Thick Film; Tolerance: 1%; Size: 0402; ComponentLink1Description: Datasheet; ComponentLink1URL: https://www.yageo.com/upload/media/product/products/datasheet/rchip/PYu-RC_Group_51_RoHS_L_12.pdf
footprint RES-0402
pins: 1, 2
1 alternate drawing of the same symbol

## RES-348k-0001
designator R?, comment Power: 1/16 W  Resistance: 348K  (hidden comment: RC0402FR-07348KL)
348 kOhms ±1% 0.063W, 1/16W Chip Resistor 0402 (1005 Metric) Moisture Resistant Thick Film
footprint RES-0402
pins: 1, 2

## RES-374-0001
designator R?, comment Power: 1/16W  Resistance: 374R  (hidden comment: RC0402FR-07374RL)
RES 374 OHM 1% 1/16W 0402; Tolerance: 1%; Size: 0402; ComponentLink1Description: Datasheet; ComponentLink1URL: https://www.yageo.com/upload/media/product/products/datasheet/rchip/PYu-RC_Group_51_RoHS_L_12.pdf
footprint RES-0402
pins: 1, 2
1 alternate drawing of the same symbol

## RES-470-0001
designator R?, comment Power: 1/16W  Resistance: 470R  (hidden comment: RC0402FR-07470RL)
RES 470 OHM 1% 1/16W 0402; Tolerance: 1%; Size: 0402; ComponentLink1Description: Datasheet; ComponentLink1URL: https://www.yageo.com/upload/media/product/products/datasheet/rchip/PYu-RC_Group_51_RoHS_L_12.pdf
footprint RES-0402
pins: 1, 2
1 alternate drawing of the same symbol

## TEST-POINT-0001
designator TP?, comment 5003  (value not drawn)
Oranange PC Test Point, Miniature Phoisphor Bronze Silver Plating Through Hole Mounting Type
footprint TEST-POINT-0001 (2024 miniature test point)
pins: 1 0

## TMCS1101A3BQDR
designator U?  (value not drawn)
Manufacturer: TI(德州仪器); Add into BOM: yes; Current Range: ±11.25A; Supply Voltage: 3V~5.5V; Sensitivity: 200mV/A; Symbol: TMCS1101A3BQDR; Device: TMCS1101A3BQDR; LCSC Part Name: TMCS1101A3BQDR; Supplier Part: C2871609; Manufacturer Part: TMCS1101A3BQDR; Supplier Footprint: SOIC-8; JLCPCB Part Class: Extended Part; Datasheet: https://www.ti.com/cn/lit/gpn/tmcs1101; Supplier: LCSC; Convert to PCB: yes; Operating Temperature: -40℃~+125℃
footprint SOIC-8_L4.9-W3.9-P1.27-LS6.0-BL
pins: 1 IN+, 2 IN+, 3 IN-, 4 IN-, 5 GND, 6 NC, 7 VOUT, 8 VS

## TPS54302DDCR
designator U?
4.5-V to 28-V Input, 3-A Output, EMI Friendly Synchronous Step-Down Converter; MF: Texas Instruments; Package: SOT-23-THN-6 Texas Instruments; Price: None; Check_prices: https://www.snapeda.com/parts/TPS54302DDCR/Texas+Instruments/view-part/?ref=eda; Value: *; SnapEDA_Link: https://www.snapeda.com/parts/TPS54302DDCR/Texas+Instruments/view-part/?ref=snap; MP: TPS54302DDCR; Availability: In Stock; Purchase-URL: https://pricing.snapeda.com/search?q=TPS54302DDCR&ref=eda
footprint SOT95P280X110-6N
pins: 1 GND (power), 2 SW (out), 3 VIN (power), 4 FB (in), 5 EN (in), 6 BOOT (out)